# EAGLE library part CON-DF17-60M (library MAX9812)
Hirose DF17 series 0.5mm pitch 60pin male connector
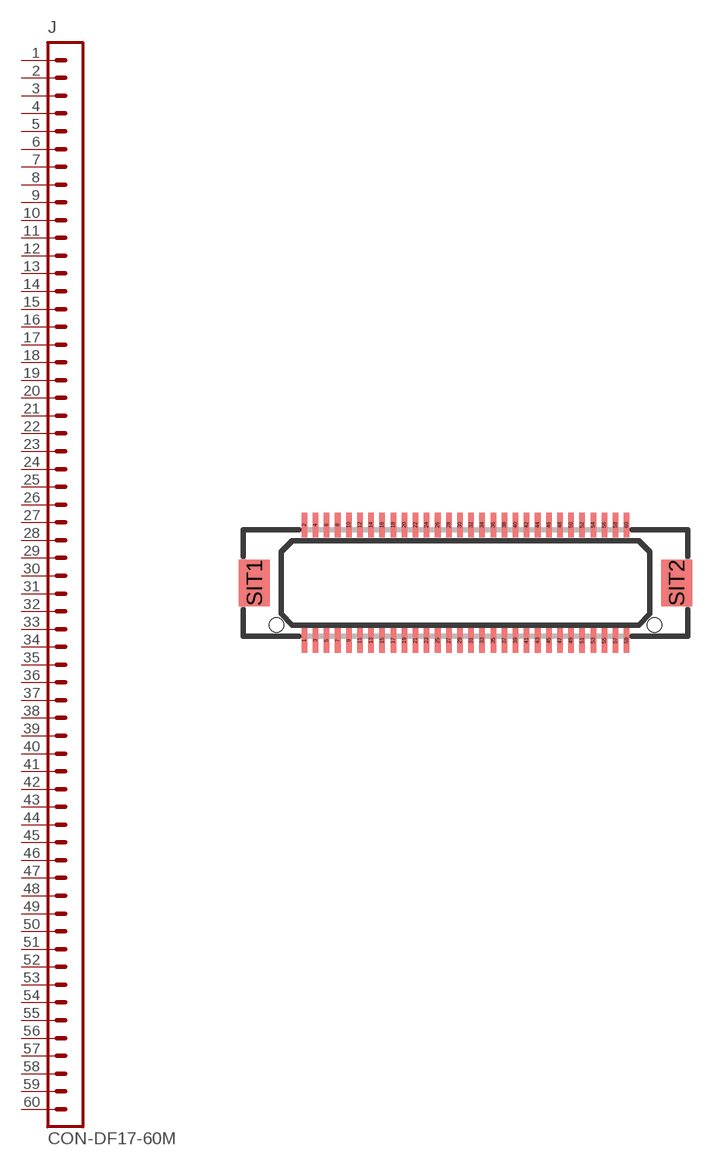
[diagram p12: symbol with the pads of CON-DF17-60M; footprint CON-DF17-60M]

Designator prefix J

## CON-DF17-60M  [CON-DF17-60M]
1  1  pas
2  2  pas
3  3  pas
4  4  pas
5  5  pas
6  6  pas
7  7  pas
8  8  pas
9  9  pas
10  10  pas
11  11  pas
12  12  pas
13  13  pas
14  14  pas
15  15  pas
16  16  pas
17  17  pas
18  18  pas
19  19  pas
20  20  pas
21  21  pas
22  22  pas
23  23  pas
24  24  pas
25  25  pas
26  26  pas
27  27  pas
28  28  pas
29  29  pas
30  30  pas
31  31  pas
32  32  pas
33  33  pas
34  34  pas
35  35  pas
36  36  pas
37  37  pas
38  38  pas
39  39  pas
40  40  pas
41  41  pas
42  42  pas
43  43  pas
44  44  pas
45  45  pas
46  46  pas
47  47  pas
48  48  pas
49  49  pas
50  50  pas
51  51  pas
52  52  pas
53  53  pas
54  54  pas
55  55  pas
56  56  pas
57  57  pas
58  58  pas
59  59  pas
60  60  pas

## Footprint CON-DF17-60M (pad centres in mm)
Hirose DF17 60pin 0.5mm pitch header
smd 0.25 x 1.1: 1 -7.25,-2.6; 2 -7.25,2.6; 3 -6.75,-2.6; 4 -6.75,2.6; 5 -6.25,-2.6; 6 -6.25,2.6; 7 -5.75,-2.6; 8 -5.75,2.6; 9 -5.25,-2.6; 10 -5.25,2.6; 11 -4.75,-2.6; 12 -4.75,2.6; 13 -4.25,-2.6; 14 -4.25,2.6; 15 -3.75,-2.6; 16 -3.75,2.6; 17 -3.25,-2.6; 18 -3.25,2.6; 19 -2.75,-2.6; 20 -2.75,2.6; 21 -2.25,-2.6; 22 -2.25,2.6; 23 -1.75,-2.6; 24 -1.75,2.6; 25 -1.25,-2.6; 26 -1.25,2.6; 27 -0.75,-2.6; 28 -0.75,2.6; 29 -0.25,-2.6; 30 -0.25,2.6; 31 0.25,-2.6; 32 0.25,2.6; 33 0.75,-2.6; 34 0.75,2.6; 35 1.25,-2.6; 36 1.25,2.6; 37 1.75,-2.6; 38 1.75,2.6; 39 2.25,-2.6; 40 2.25,2.6; 41 2.75,-2.6; 42 2.75,2.6; 43 3.25,-2.6; 44 3.25,2.6; 45 3.75,-2.6; 46 3.75,2.6; 47 4.25,-2.6; 48 4.25,2.6; 49 4.75,-2.6; 50 4.75,2.6; 51 5.25,-2.6; 52 5.25,2.6; 53 5.75,-2.6; 54 5.75,2.6; 55 6.25,-2.6; 56 6.25,2.6; 57 6.75,-2.6; 58 6.75,2.6; 59 7.25,-2.6; 60 7.25,2.6
smd 1.4 x 2.1: SIT1 -9.5,0; SIT2 9.5,0
hole 0.65 at -8.5,-1.9
hole 0.65 at 8.5,-1.9